# EAGLE library part FE03-2 (library shepherd)
FEMALE HEADER
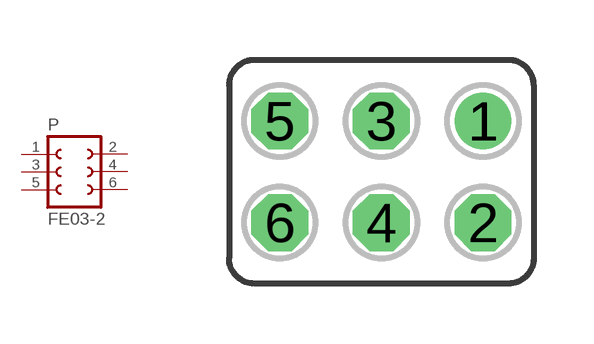
[diagram p18: symbol with the pads of FE03-2; footprint FE03-2]

Designator prefix P

## FE03-2  [FE03-2]
1  1  pas
2  2  pas
3  3  pas
4  4  pas
5  5  pas
6  6  pas

## Footprint FE03-2 (pad centres in mm)
FEMALE HEADER
drill 0.914: 1 2.54,1.27
drill 0.914 octagon: 2 2.54,-1.27; 3 0,1.27; 4 0,-1.27; 5 -2.54,1.27; 6 -2.54,-1.27